# Altium footprint library EISI.PcbLib: 695 footprints (part 21 of 44)
Each footprint in its own frame and in the unit in brackets; x right, y up, seen from the top. Pads: shape width x height; smd on the part's side, far side on the other; paste and mask are expansions set on the pad; w line width, h text height; cw(c..) or ccw(c..) is an arc to the next point about the centre after c.
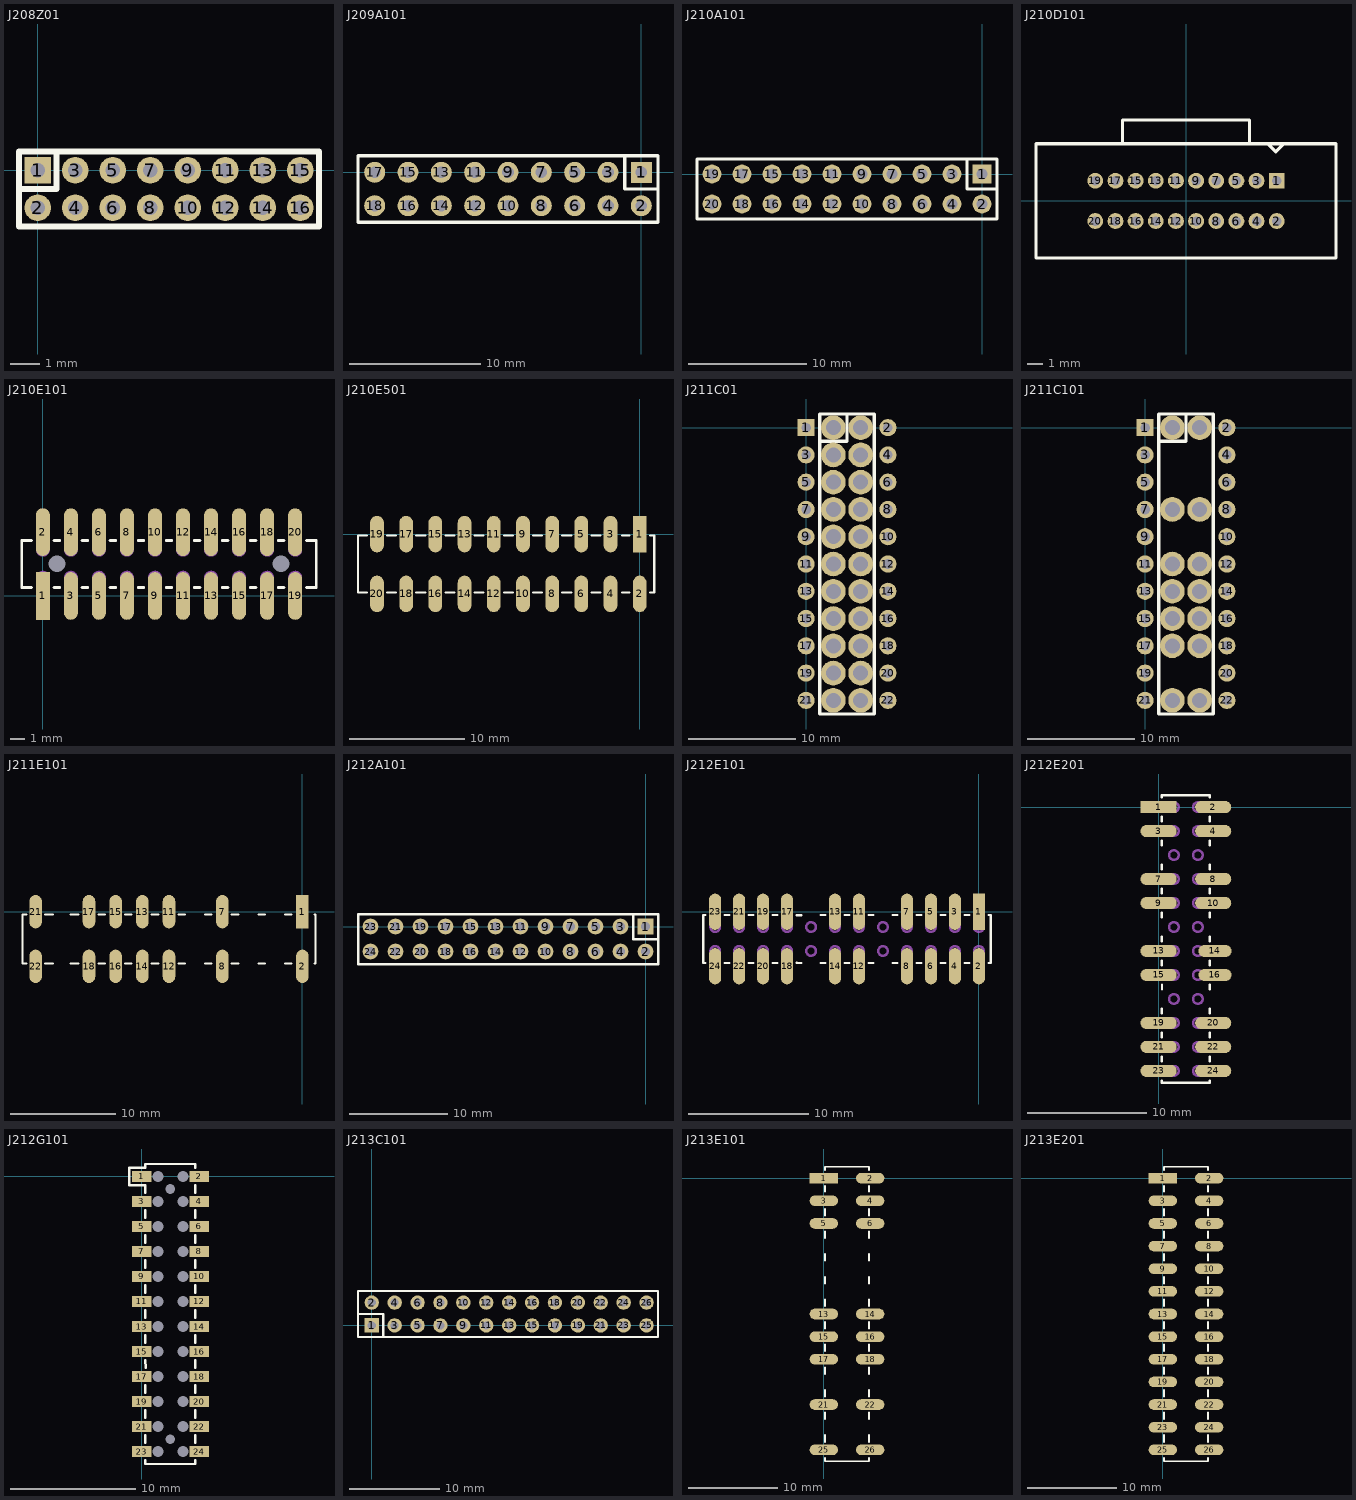
[diagram p20: the footprints below, top view; thin cyan lines are the x and y axes]

## J208Z01 [mm] "Barette 2x8 pas 1.27mm"
pads (16):
  rect 0.9x0.9 hole 0.5: 1(0,0)
  round 0.9 hole 0.5: 2(0,-1.27) 3(1.27,0) 4(1.27,-1.27) 5(2.54,0) 6(2.54,-1.27) 7(3.81,0) 8(3.81,-1.27) 9(5.08,0) 10(5.08,-1.27) 11(6.35,0) 12(6.35,-1.27) 13(7.62,0) 14(7.62,-1.27) 15(8.89,0) 16(8.89,-1.27)
TopOverlay:
  lines w0.2: 0.635,0.635 0.635,-0.635 -0.635,-0.635 -0.635,0.635 ; -0.635,0.635 -0.635,-1.905 9.525,-1.905 9.525,0.635 -0.635,0.635

## J209A101 [mm]
pads (18):
  rect 1.6x1.6 hole 0.9: 1(0,0)
  round 1.6 hole 0.9: 2(0,-2.54) 3(-2.54,0) 4(-2.54,-2.54) 5(-5.08,0) 6(-5.08,-2.54) 7(-7.62,0) 8(-7.62,-2.54) 9(-10.16,0) 10(-10.16,-2.54) 11(-12.7,0) 12(-12.7,-2.54) 13(-15.24,0) 14(-15.24,-2.54) 15(-17.78,0) 16(-17.78,-2.54) 17(-20.32,0) 18(-20.32,-2.54)
TopOverlay:
  lines w0.254: -1.27,1.27 -1.27,-1.27 1.27,-1.27 ; -21.59,-3.81 1.27,-3.81 1.27,1.27 -21.59,1.27 -21.59,-3.81

## J210A101 [mm]
pads (20):
  rect 1.6x1.6 hole 0.9: 1(0,0)
  round 1.6 hole 0.9: 2(0,-2.54) 3(-2.54,0) 4(-2.54,-2.54) 5(-5.08,0) 6(-5.08,-2.54) 7(-7.62,0) 8(-7.62,-2.54) 9(-10.16,0) 10(-10.16,-2.54) 11(-12.7,0) 12(-12.7,-2.54) 13(-15.24,0) 14(-15.24,-2.54) 15(-17.78,0) 16(-17.78,-2.54) 17(-20.32,0) 18(-20.32,-2.54) 19(-22.86,0) 20(-22.86,-2.54)
TopOverlay:
  lines w0.254: -1.27,1.27 -1.27,-1.27 1.27,-1.27 ; -24.13,-3.81 1.27,-3.81 1.27,1.27 -24.13,1.27 -24.13,-3.81

## J210D101 [mm] "Con header cable plat 1.27mm droit"
height 9.9
pads (20):
  rect 1x1 hole 0.6: 1(5.715,1.27)
  round 1 hole 0.6: 2(5.715,-1.27) 3(4.445,1.27) 4(4.445,-1.27) 5(3.175,1.27) 6(3.175,-1.27) 7(1.905,1.27) 8(1.905,-1.27) 9(0.635,1.27) 10(0.635,-1.27) 11(-0.635,1.27) 12(-0.635,-1.27) 13(-1.905,1.27) 14(-1.905,-1.27) 15(-3.175,1.27) 16(-3.175,-1.27) 17(-4.445,1.27) 18(-4.445,-1.27) 19(-5.715,1.27) 20(-5.715,-1.27)
TopOverlay:
  lines w0.2: -4,3.6 -4,5.1 4,5.1 4,3.6 ; 6.15,3.6 5.65,3.1 5.15,3.6 ; 5.15,3.6 5.15,3.6 ; -9.45,-3.6 -9.45,3.6 9.45,3.6 9.45,-3.6 -9.45,-3.6

## J210E101 [mm]
pads (22):
  rect 1x3.4 smd: 1(0,0)
  oval 1x3.4 smd: 2(0,4.557) 3(2,0) 4(2,4.55) 5(4,0) 6(4,4.55) 7(6,0) 8(6,4.55) 9(8,0) 10(8,4.55) 11(10,0) 12(10,4.55) 13(12,0) 14(12,4.55) 15(14,0) 16(14,4.55) 17(16,0) 18(16,4.55) 19(18,0) 20(18,4.55)
  round 0.3 hole 1.2: ""(1,2.3) ""(17,2.3)
TopOverlay:
  lines w0.2: -0.8,0.6 -1.5,0.6 -1.5,3.95 -0.8,3.95 ; 0.8,0.6 1.2,0.6 ; 0.8,3.95 1.2,3.95 ; 2.8,0.6 3.2,0.6 ; 2.8,3.95 3.2,3.95 ; 4.8,0.6 5.2,0.6 ; 4.8,3.95 5.2,3.95 ; 6.8,0.6 7.2,0.6 ; 6.8,3.95 7.2,3.95 ; 8.8,0.6 9.2,0.6 ; 8.8,3.95 9.2,3.95 ; 10.8,0.6 11.201,0.61 ; 10.8,3.95 11.201,3.947 ; 12.8,0.6 13.2,0.6 ; 12.8,3.95 13.2,3.95 ; 15,0.6 14.8,0.6 15.2,0.6 ; 15,3.95 14.8,3.95 15.2,3.95 ; 16.8,0.6 17.2,0.6 ; 16.8,3.95 17.2,3.95 ; 18.8,0.6 19.5,0.6 19.5,3.95 18.8,3.95
Mechanical4:
  circle w0.2: c0,1.3 r0.4
  circle w0.2: c2,1.3 r0.4
  circle w0.2: c0,3.3 r0.4
  circle w0.2: c14,1.3 r0.4
  circle w0.2: c14,3.3 r0.4
  circle w0.2: c12,3.3 r0.4
  circle w0.2: c12,1.3 r0.4
  circle w0.2: c10,1.3 r0.4
  circle w0.2: c10,3.3 r0.4
  circle w0.2: c8,3.3 r0.4
  circle w0.2: c8,1.3 r0.4
  circle w0.2: c6,1.3 r0.4
  circle w0.2: c6,3.3 r0.4
  circle w0.2: c4,3.3 r0.4
  circle w0.2: c4,1.3 r0.4
  circle w0.2: c2,3.3 r0.4
  circle w0.2: c16,1.3 r0.4
  circle w0.2: c18,3.3 r0.4
  circle w0.2: c18,1.3 r0.4
  circle w0.2: c16,3.3 r0.4

## J210E501 [mil] "Connecteur 2x10 SMD pas 2.54mm"
pads (20):
  rect 47x125 smd: 1(0,0)
  oval 47x125 smd: 2(0,-205) 3(-100,0) 4(-100,-205) 5(-200,0) 6(-200,-205) 7(-300,0) 8(-300,-205) 9(-400,0) 10(-400,-205) 11(-500,0) 12(-500,-205) 13(-600,0) 14(-600,-205) 15(-700,0) 16(-700,-205) 17(-800,0) 18(-800,-205) 19(-900,0) 20(-900,-205)
TopOverlay:
  lines w7.87: -965,-7.09 -965,-200 -935,-200 ; -965,-5 -935,-5 ; -865,-200 -835,-200 ; -865,-5 -835,-5 ; -765,-200 -735,-200 ; -765,-5 -735,-5 ; -665,-200 -635,-200 ; -665,-5 -635,-5 ; -565,-200 -535,-200 ; -565,-5 -535,-5 ; -465,-200 -435,-200 ; -465,-5 -435,-5 ; -365,-200 -335,-200 ; -365,-5 -335,-5 ; -265,-200 -235,-200 ; -265,-5 -235,-5 ; -165,-200 -135,-200 ; -165,-5 -135,-5 ; -60,-200 -35,-200 ; -60,-5 -35,-5 ; 35,-200 50,-200 50,-5 35,-5

## J211C01 [mm]
pads (44):
  rect 1.6x1.6 hole 0.9: 1(0,0)
  round 1.6 hole 0.9: 2(7.62,0) 3(0,-2.54) 4(7.62,-2.54) 5(0,-5.08) 6(7.62,-5.08) 7(0,-7.62) 8(7.62,-7.62) 9(0,-10.16) 10(7.62,-10.16) 11(0,-12.7) 12(7.62,-12.7) 13(0,-15.24) 14(7.62,-15.24) 15(0,-17.78) 16(7.62,-17.78) 17(0,-20.32) 18(7.62,-20.32) 19(0,-22.86) 20(7.62,-22.86) 21(0,-25.4) 22(7.62,-25.4)
  round 2.3 hole 1.4: ""(2.54,-25.4) ""(2.54,-22.86) ""(2.54,-20.32) ""(2.54,-17.78) ""(2.54,-15.24) ""(2.54,-12.7) ""(2.54,-10.16) ""(2.54,-7.62) ""(2.54,-5.08) ""(2.54,-2.54) ""(2.54,0) ""(5.08,-25.4) ""(5.08,-22.86) ""(5.08,-20.32) ""(5.08,-17.78) ""(5.08,-15.24) ""(5.08,-12.7) ""(5.08,-10.16) ""(5.08,-7.62) ""(5.08,-5.08) ""(5.08,-2.54) ""(5.08,0)
TopOverlay:
  lines w0.305: 1.27,-1.27 3.81,-1.27 3.81,1.27 ; 1.27,-26.67 6.35,-26.67 6.35,1.27 1.27,1.27 1.27,-26.67

## J211C101 [mm]
pads (36):
  rect 1.6x1.6 hole 0.9: 1(0,0)
  round 1.6 hole 0.9: 2(7.62,0) 3(0,-2.54) 4(7.62,-2.54) 5(0,-5.08) 6(7.62,-5.08) 7(0,-7.62) 8(7.62,-7.62) 9(0,-10.16) 10(7.62,-10.16) 11(0,-12.7) 12(7.62,-12.7) 13(0,-15.24) 14(7.62,-15.24) 15(0,-17.78) 16(7.62,-17.78) 17(0,-20.32) 18(7.62,-20.32) 19(0,-22.86) 20(7.62,-22.86) 21(0,-25.4) 22(7.62,-25.4)
  round 2.3 hole 1.4: ""(2.54,-25.4) ""(2.54,-20.32) ""(2.54,-17.78) ""(2.54,-15.24) ""(2.54,-12.7) ""(2.54,-7.62) ""(2.54,0) ""(5.08,-25.4) ""(5.08,-20.32) ""(5.08,-17.78) ""(5.08,-15.24) ""(5.08,-12.7) ""(5.08,-7.62) ""(5.08,0)
TopOverlay:
  lines w0.305: 1.27,-1.27 3.81,-1.27 3.81,1.27 ; 1.27,-26.67 1.27,1.27 6.35,1.27 6.35,-26.67 1.27,-26.67

## J211E101 [mil]
pads (14):
  rect 47x125 smd: 1(0,0)
  oval 47x125 smd: 2(0,-205) 7(-300,0) 8(-300,-205) 11(-500,0) 12(-500,-205) 13(-600,0) 14(-600,-205) 15(-700,0) 16(-700,-205) 17(-800,0) 18(-800,-205) 21(-1000,0) 22(-1000,-205)
TopOverlay:
  lines w7.87: -1035,-195 -1050,-195 -1050,-10 -1035,-10 ; -965,-195 -935,-195 ; -965,-10 -935,-10 ; -870,-195 -840,-195 ; -870,-10 -840,-10 ; -765,-195 -740,-195 ; -765,-10 -740,-10 ; -665,-195 -640,-195 ; -665,-10 -640,-10 ; -565,-195 -540,-195 ; -565,-10 -540,-10 ; -465,-195 -440,-195 ; -465,-10 -440,-10 ; -365,-195 -340,-195 ; -365,-10 -340,-10 ; -265,-195 -240,-195 ; -265,-10 -240,-10 ; -165,-195 -140,-195 ; -165,-10 -140,-10 ; -65,-195 -40,-195 ; -65,-10 -40,-10 ; 45,-195 50,-195 50,-10 45,-10

## J212A101 [mm]
pads (24):
  rect 1.6x1.6 hole 0.9: 1(0,0)
  round 1.6 hole 0.9: 2(0,-2.54) 3(-2.54,0) 4(-2.54,-2.54) 5(-5.08,0) 6(-5.08,-2.54) 7(-7.62,0) 8(-7.62,-2.54) 9(-10.16,0) 10(-10.16,-2.54) 11(-12.7,0) 12(-12.7,-2.54) 13(-15.24,0) 14(-15.24,-2.54) 15(-17.78,0) 16(-17.78,-2.54) 17(-20.32,0) 18(-20.32,-2.54) 19(-22.86,0) 20(-22.86,-2.54) 21(-25.4,0) 22(-25.4,-2.54) 23(-27.94,0) 24(-27.94,-2.54)
TopOverlay:
  lines w0.254: -1.27,1.27 -1.27,-1.27 1.27,-1.27 ; -29.21,-3.81 1.27,-3.81 1.27,1.27 -29.21,1.27 -29.21,-3.81

## J212E101 [mm]
pads (20):
  rect 1.02x3.02 smd: 1(0,0)
  oval 1.02x3.02 smd: 2(0,-4.55) 3(-2,0) 4(-2,-4.55) 5(-4,0) 6(-4,-4.55) 7(-6,0) 8(-6,-4.55) 11(-10,0) 12(-10,-4.55) 13(-12,0) 14(-12,-4.55) 17(-16,0) 18(-16,-4.55) 19(-18,0) 20(-18,-4.55) 21(-20,0) 22(-20,-4.55) 23(-22,0) 24(-22,-4.55)
TopOverlay:
  lines w0.2: -22.8,-4.275 -23,-4.275 -23,-0.275 -22.8,-0.275 ; -21.2,-4.275 -20.8,-4.275 ; -21.2,-0.275 -20.8,-0.275 ; -19.2,-4.275 -18.8,-4.275 ; -19.2,-0.275 -18.8,-0.275 ; -17.2,-4.275 -16.8,-4.275 ; -17.2,-0.275 -16.8,-0.275 ; -15.189,-4.267 -14.8,-4.275 ; -15.189,-0.279 -14.808,-0.279 ; -13.2,-4.275 -12.8,-4.275 ; -13.2,-0.275 -12.8,-0.275 ; -11.2,-4.275 -10.8,-4.275 ; -11.2,-0.275 -10.8,-0.275 ; -9.2,-4.275 -8.8,-4.275 ; -9.2,-0.275 -8.8,-0.275 ; -7.2,-4.275 -6.8,-4.275 ; -7.2,-0.275 -6.8,-0.275 ; -5.2,-4.275 -4.8,-4.275 ; -5.2,-0.275 -4.8,-0.275 ; -3.2,-4.275 -2.8,-4.275 ; -3.2,-0.275 -2.8,-0.275 ; -1.2,-4.275 -0.8,-4.275 ; -1.2,-0.275 -0.8,-0.275 ; 0.8,-4.275 1,-4.275 1,-0.275 0.8,-0.275
Mechanical4:
  circle w0.2: c0,-1.275 r0.4
  circle w0.2: c-2,-1.275 r0.4
  circle w0.2: c-2,-3.275 r0.4
  circle w0.2: c-4,-1.275 r0.4
  circle w0.2: c-4,-3.275 r0.4
  circle w0.2: c-6,-3.275 r0.4
  circle w0.2: c-6,-1.275 r0.4
  circle w0.2: c-8,-1.275 r0.4
  circle w0.2: c-8,-3.275 r0.4
  circle w0.2: c-10,-3.275 r0.4
  circle w0.2: c-10,-1.275 r0.4
  circle w0.2: c-12,-3.275 r0.4
  circle w0.2: c-12,-1.275 r0.4
  circle w0.2: c-14,-1.275 r0.4
  circle w0.2: c-14,-3.275 r0.4
  circle w0.2: c0,-3.275 r0.4
  circle w0.2: c-16,-3.275 r0.4
  circle w0.2: c-16,-1.275 r0.4
  circle w0.2: c-18,-1.275 r0.4
  circle w0.2: c-18,-3.275 r0.4
  circle w0.2: c-20,-3.275 r0.4
  circle w0.2: c-20,-1.275 r0.4
  circle w0.2: c-22,-1.275 r0.4
  circle w0.2: c-22,-3.275 r0.4

## J212E201 [mm]
pads (18):
  rect 3.02x1.02 smd: 1(0,0)
  oval 3.02x1.02 smd: 2(4.55,0) 3(0,-2) 4(4.55,-2) 7(0,-6) 8(4.55,-6) 9(0,-8) 10(4.55,-8) 13(0,-12) 15(0,-14) 19(0,-18) 20(4.55,-18) 21(0,-20) 22(4.55,-20) 23(0,-22) 24(4.55,-22)
  oval 2.75x1.02 smd: 14(4.7,-12) 16(4.7,-14)
TopOverlay:
  lines w0.2: 0.275,-22.8 0.275,-23 4.275,-23 4.275,-22.8 ; 0.275,-21.2 0.275,-20.8 ; 0.275,-19.2 0.275,-18.8 ; 0.275,-17.2 0.275,-16.8 ; 0.275,-13.2 0.275,-12.8 ; 0.275,-11.2 0.275,-10.8 ; 0.275,-9.2 0.275,-8.8 ; 0.275,-7.2 0.275,-6.8 ; 0.275,-5.2 0.275,-4.8 ; 0.275,-3.2 0.275,-2.8 ; 0.275,-1.2 0.275,-0.8 ; 0.275,0.8 0.275,1 4.275,1 4.275,0.8 ; 0.279,-15.189 0.279,-14.808 ; 4.267,-15.189 4.275,-14.8 ; 4.275,-21.2 4.275,-20.8 ; 4.275,-19.2 4.275,-18.8 ; 4.275,-17.2 4.275,-16.8 ; 4.275,-13.2 4.275,-12.8 ; 4.275,-11.2 4.275,-10.8 ; 4.275,-9.2 4.275,-8.8 ; 4.275,-7.2 4.275,-6.8 ; 4.275,-5.2 4.275,-4.8 ; 4.275,-3.2 4.275,-2.8 ; 4.275,-1.2 4.275,-0.8
Mechanical4:
  circle w0.2: c1.275,0 r0.4
  circle w0.2: c1.275,-2 r0.4
  circle w0.2: c3.275,-2 r0.4
  circle w0.2: c1.275,-4 r0.4
  circle w0.2: c3.275,-4 r0.4
  circle w0.2: c3.275,-6 r0.4
  circle w0.2: c1.275,-6 r0.4
  circle w0.2: c1.275,-8 r0.4
  circle w0.2: c3.275,-8 r0.4
  circle w0.2: c3.275,-10 r0.4
  circle w0.2: c1.275,-10 r0.4
  circle w0.2: c3.275,-12 r0.4
  circle w0.2: c1.275,-12 r0.4
  circle w0.2: c1.275,-14 r0.4
  circle w0.2: c3.275,-14 r0.4
  circle w0.2: c3.275,0 r0.4
  circle w0.2: c3.275,-16 r0.4
  circle w0.2: c1.275,-16 r0.4
  circle w0.2: c1.275,-18 r0.4
  circle w0.2: c3.275,-18 r0.4
  circle w0.2: c3.275,-20 r0.4
  circle w0.2: c1.275,-20 r0.4
  circle w0.2: c1.275,-22 r0.4
  circle w0.2: c3.275,-22 r0.4

## J212G101 [mm]
pads (50):
  rect 1.524x0.889 smd: 1(0,0) 2(4.6,0) 3(0,-2) 4(4.6,-2) 5(0,-4) 6(4.6,-4) 7(0,-6) 8(4.6,-6) 9(0,-8) 10(4.6,-8) 11(0,-10) 12(4.6,-10) 13(0,-12) 14(4.6,-12) 15(0,-14) 16(4.6,-14) 17(0,-16) 18(4.6,-16) 19(0,-18) 20(4.6,-18) 21(0,-20) 22(4.6,-20) 23(0,-22) 24(4.6,-22)
  round 0.305 hole 0.86: ""(1.3,-22) ""(1.3,-20) ""(1.3,-18) ""(1.3,-16) ""(1.3,-12) ""(1.3,-10) ""(1.3,-8) ""(1.3,-6) ""(1.3,-4) ""(1.3,-2) ""(1.3,0) ""(1.3,-14) ""(3.3,-22) ""(3.3,-20) ""(3.3,-18) ""(3.3,-16) ""(3.3,-14) ""(3.3,-12) ""(3.3,-10) ""(3.3,-8) ""(3.3,-6) ""(3.3,-4) ""(3.3,-2) ""(3.3,0)
  round 0.305 hole 0.76: ""(2.3,-21) ""(2.3,-1)
TopOverlay:
  lines w0.2: 0.3,-22.7 0.3,-23 4.3,-23 4.3,-22.7 ; 0.3,-21.3 0.3,-20.7 ; 0.3,-19.3 0.3,-18.7 ; 0.3,-17.3 0.3,-16.7 ; 0.3,-14.7 0.305,-15.291 ; 0.3,-13.3 0.3,-12.7 ; 0.3,-11.3 0.3,-10.7 ; 0.3,-9.3 0.3,-8.7 ; 0.3,-7.3 0.3,-6.7 ; 0.3,-5.3 0.3,-4.7 ; 0.3,-3.3 0.3,-2.7 ; 0.3,-1.3 0.3,-0.7 -0.4,-0.7 -1,-0.7 -1,0.7 0.3,0.7 0.3,1 4.3,1 4.3,0.7 ; 4.293,-15.291 4.3,-14.7 ; 4.3,-21.3 4.3,-20.7 ; 4.3,-19.3 4.3,-18.7 ; 4.3,-17.3 4.3,-16.7 ; 4.3,-13.3 4.3,-12.7 ; 4.3,-11.3 4.3,-10.7 ; 4.3,-9.3 4.3,-8.7 ; 4.3,-7.3 4.3,-6.7 ; 4.3,-5.3 4.3,-4.7 ; 4.3,-3.3 4.3,-2.7 ; 4.3,-1.3 4.3,-0.7

## J213C101 [mm]
pads (26):
  rect 1.6x1.6 hole 0.9: 1(0,0)
  round 1.6 hole 0.9: 2(0,2.54) 3(2.54,0) 4(2.54,2.54) 5(5.08,0) 6(5.08,2.54) 7(7.62,0) 8(7.62,2.54) 9(10.16,0) 10(10.16,2.54) 11(12.7,0) 12(12.7,2.54) 13(15.24,0) 14(15.24,2.54) 15(17.78,0) 16(17.78,2.54) 17(20.32,0) 18(20.32,2.54) 19(22.86,0) 20(22.86,2.54) 21(25.4,0) 22(25.4,2.54) 23(27.94,0) 24(27.94,2.54) 25(30.48,0) 26(30.48,2.54)
TopOverlay:
  lines w0.25: -1.524,1.27 1.27,1.27 1.27,-1.27 ; -1.524,-1.27 31.75,-1.27 31.75,3.81 -1.524,3.81 -1.524,-1.27

## J213E101 [mil]
pads (16):
  rect 125x47 smd: 1(0,0)
  oval 125x47 smd: 2(205,0) 3(0,-100) 4(205,-100) 5(0,-200) 6(205,-200) 13(0,-600) 14(205,-600) 15(0,-700) 16(205,-700) 17(0,-800) 18(205,-800) 21(0,-1000) 22(205,-1000) 25(0,-1200) 26(205,-1200)
TopOverlay:
  lines w7.87: 5,-1235 5,-1250 200,-1250 200,-1235 ; 5,-1165 5,-1135 ; 5,-1065 5,-1035 ; 5,-965 5,-935 ; 5,-865 5,-835 ; 5,-765 5,-735 ; 5,-665 5,-635 ; 5,-565 5,-535 ; 5,-465 5,-435 ; 5,-365 5,-335 ; 5,-265 5,-235 ; 5,-165 5,-135 ; 5,-60 5,-35 ; 5,35 5,50 200,50 200,35 ; 200,-1165 200,-1135 ; 200,-1065 200,-1035 ; 200,-965 200,-935 ; 200,-865 200,-835 ; 200,-765 200,-735 ; 200,-665 200,-635 ; 200,-565 200,-535 ; 200,-465 200,-435 ; 200,-365 200,-335 ; 200,-265 200,-235 ; 200,-165 200,-135 ; 200,-60 200,-35

## J213E201 [mil]
pads (26):
  rect 125x47 smd: 1(0,0)
  oval 125x47 smd: 2(205,0) 3(0,-100) 4(205,-100) 5(0,-200) 6(205,-200) 7(0,-300) 8(205,-300) 9(0,-400) 10(205,-400) 11(0,-500) 12(205,-500) 13(0,-600) 14(205,-600) 15(0,-700) 16(205,-700) 17(0,-800) 18(205,-800) 19(0,-900) 20(205,-900) 21(0,-1000) 22(205,-1000) 23(0,-1100) 24(205,-1100) 25(0,-1200) 26(205,-1200)
TopOverlay:
  lines w7.87: 5,-1235 5,-1250 200,-1250 200,-1235 ; 5,-1165 5,-1135 ; 5,-1065 5,-1035 ; 5,-965 5,-935 ; 5,-865 5,-835 ; 5,-765 5,-735 ; 5,-665 5,-635 ; 5,-565 5,-535 ; 5,-465 5,-435 ; 5,-365 5,-335 ; 5,-265 5,-235 ; 5,-165 5,-135 ; 5,-60 5,-35 ; 5,35 5,50 200,50 200,35 ; 200,-1165 200,-1135 ; 200,-1065 200,-1035 ; 200,-965 200,-935 ; 200,-865 200,-835 ; 200,-765 200,-735 ; 200,-665 200,-635 ; 200,-565 200,-535 ; 200,-465 200,-435 ; 200,-365 200,-335 ; 200,-265 200,-235 ; 200,-165 200,-135 ; 200,-60 200,-35